# Altium footprint library LARS_409_CONNECTORS.PCBLIB: 109 footprints (part 5 of 7)
Each footprint in its own frame and in the unit in brackets; x right, y up, seen from the top. Pads: shape width x height; smd on the part's side, far side on the other; paste and mask are expansions set on the pad; w line width, h text height; cw(c..) or ccw(c..) is an arc to the next point about the centre after c.
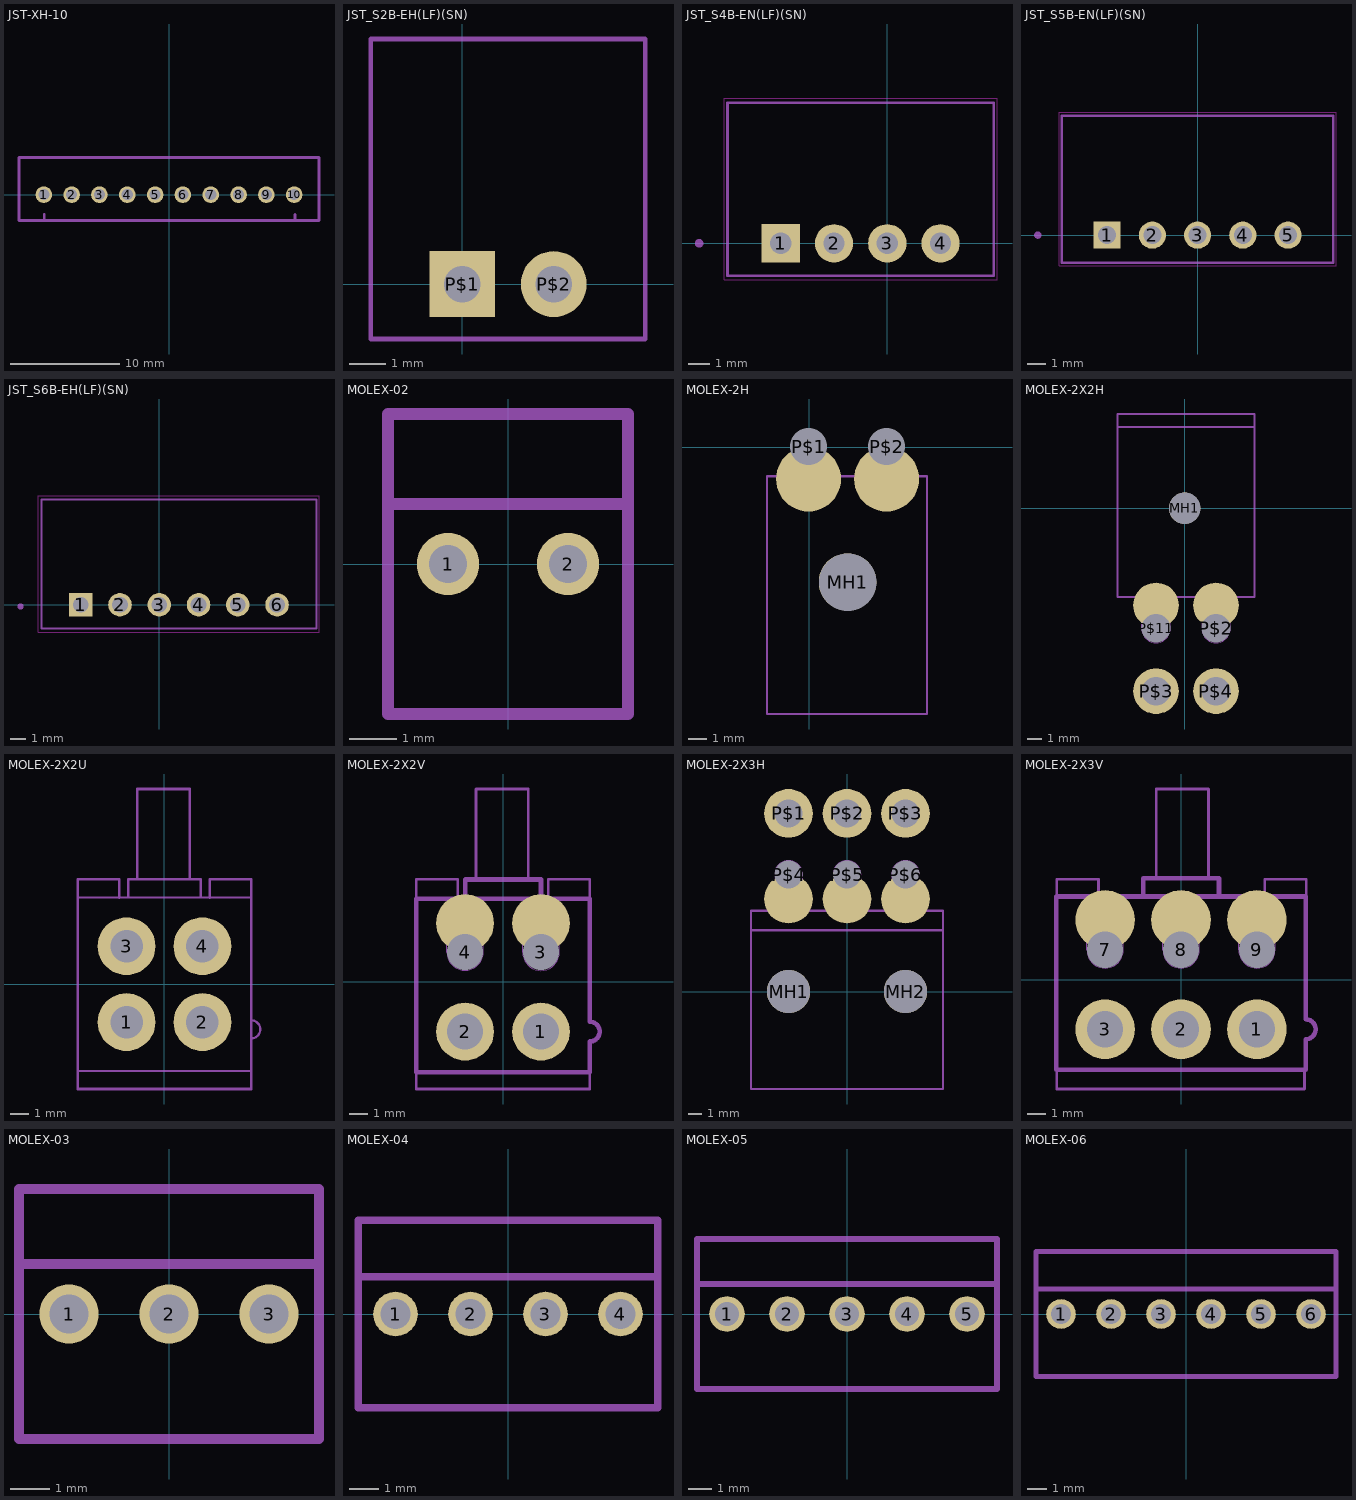
[diagram p4: the footprints below, top view; thin cyan lines are the x and y axes]

## JST-XH-10 [mil]
pads (10):
  round 60 hole 40: 1(-450,0) 2(-350,0) 3(-250,0) 4(-150,0) 5(-50,0) 6(50,0) 7(150,0) 8(250,0) 9(350,0) 10(450,0)
tDocu:
  text "1" at -510.53,-62.5 h62
tPlace:
  lines w10: -448.82,-90.55 -448.82,-70.87 ; 452.76,-90.55 452.76,-70.87 ; -539.37,-92.82 539.37,-92.82 539.37,133.56 -539.37,133.56 -539.37,-92.82

## JST_S2B-EH(LF)(SN) [mm]
pads (2):
  rect 1.8x1.8 / inner round 1.663 / far side rect 1.8x1.8 hole 1: P$1(0,0)
  round 1.8 hole 1: P$2(2.5,0)
tPlace:
  lines w0.127: -2.5,-1.5 -2.5,6.7 5,6.7 5,-1.5 -2.5,-1.5

## JST_S4B-EN(LF)(SN) [mm]
pads (4):
  rect 1.8x1.8 / inner round 1.663 / far side rect 1.8x1.8 hole 1: 1(-5,0)
  round 1.8 hole 1: 2(-2.5,0) 3(0,0) 4(2.5,0)
Top keep-out:
  lines w0.05: -7.65,-1.7 -7.65,6.8 5.15,6.8 5.15,-1.7 -7.65,-1.7
tDocu:
  circle w0.2: c-8.83,0 r0.1
  lines w0.127: -7.5,-1.52 5,-1.52 5,6.6 -7.5,6.6 -7.5,-1.52
tPlace:
  circle w0.2: c-8.83,0 r0.1
  lines w0.127: -7.5,-1.52 5,-1.52 5,6.6 -7.5,6.6 -7.5,-1.52

## JST_S5B-EN(LF)(SN) [mm]
pads (5):
  rect 1.5x1.5 / inner round 1.386 / far side rect 1.5x1.5 hole 1: 1(-5,0)
  round 1.5 hole 1: 2(-2.5,0) 3(0,0) 4(2.5,0) 5(5,0)
Top keep-out:
  lines w0.05: -7.65,-1.7 -7.65,6.8 7.65,6.8 7.65,-1.7 -7.65,-1.7
tDocu:
  circle w0.2: c-8.83,0 r0.1
  lines w0.127: -7.5,-1.52 7.5,-1.52 7.5,6.6 -7.5,6.6 -7.5,-1.52
tPlace:
  circle w0.2: c-8.83,0 r0.1
  lines w0.127: -7.5,-1.52 7.5,-1.52 7.5,6.6 -7.5,6.6 -7.5,-1.52

## JST_S6B-EH(LF)(SN) [mm]
pads (6):
  rect 1.5x1.5 / inner round 1.386 / far side rect 1.5x1.5 hole 1: 1(-5,0)
  round 1.5 hole 1: 2(-2.5,0) 3(0,0) 4(2.5,0) 5(5,0) 6(7.5,0)
Top keep-out:
  lines w0.05: -7.7,-1.75 -7.7,6.95 10.17,6.95 10.17,-1.75 -7.7,-1.75
tDocu:
  circle w0.2: c-8.83,-0.1 r0.1
  lines w0.127: -7.5,-1.5 10,-1.5 10,6.7 -7.5,6.7 -7.5,-1.5
tPlace:
  circle w0.2: c-8.83,-0.1 r0.1
  lines w0.127: -7.5,-1.5 10,-1.5 10,6.7 -7.5,6.7 -7.5,-1.5

## MOLEX-02 [mil]
pads (2):
  round 52 hole 32: 1(-50,0) 2(50,0)
tPlace:
  lines w10: -100,50 100,50 ; -100,50 -100,125 100,125 100,50 ; -100,50 -100,-125 100,-125 100,50

## MOLEX-2H [mm]
pads (3):
  round 3.1 hole 3.1 unplated: MH1(2.06,-7.25)
  round 3.5 hole 2 copper offset 0,-1.75: P$1(-0.04,0.05) P$2(4.16,0.05)
tPlace:
  lines w0.127: 6.34,-2.34 6.34,-14.35 -2.28,-14.35 -2.28,-1.55 6.34,-1.55 6.34,-2.32

## MOLEX-2X2H [mm]
pads (5):
  round 2.2 hole 2.2 unplated: MH1(0,0)
  round 3.2 hole 2 copper offset 0,1.6: P$2(2.2,-8.4) P$11(-2,-8.4)
  round 3.2 hole 2: P$3(-2,-12.8) P$4(2.2,-12.8)
Milling:
  lines w0: -3.01,-8.4 ccw(c-2,-8.4) -2,-9.41 ccw(c-2,-8.4) -0.99,-8.4 -0.99,-7.3 ccw(c-2,-7.3) -2,-6.29 ccw(c-2,-7.3) -3.01,-7.3 -3.01,-8.4 ; 1.19,-8.4 ccw(c2.2,-8.4) 2.2,-9.41 ccw(c2.2,-8.4) 3.21,-8.4 3.21,-7.3 ccw(c2.2,-7.3) 2.2,-6.29 ccw(c2.2,-7.3) 1.19,-7.3 1.19,-8.4
tPlace:
  lines w0.127: -4.7,5.7 4.9,5.7 ; -4.7,5.7 -4.7,6.6 4.9,6.6 4.9,5.7 ; -4.7,5.7 -4.7,-6.2 4.9,-6.2 4.9,5.7

## MOLEX-2X2U [mil]
pads (4):
  round 125.98 hole 70.87: 1(-82.68,-82.68) 2(82.68,-82.68) 3(-82.68,82.68) 4(82.68,82.68)
tPlace:
  lines w5: -78.74,188.98 -78.74,228.35 -59.06,228.35 55.12,228.35 78.74,228.35 78.74,188.98 ; 188.98,-118.11 ccw(c188.98,-98.42) 188.98,-78.74 ; -188.98,-188.98 188.98,-188.98 188.98,188.98 -98.43,188.98 -188.98,188.98 -188.98,-188.98
  lines w6: -188.98,-188.98 -188.98,-228.35 188.98,-228.35 188.98,-188.98 ; -188.98,188.98 -188.98,228.35 -98.43,228.35 -98.43,188.98 ; -59.06,228.35 -59.06,425.2 55.12,425.2 55.12,228.35 ; 98.43,188.98 98.43,228.35 188.98,228.35 188.98,188.98

## MOLEX-2X2V [mm]
pads (4):
  round 3.2 hole 2: 1(2.1,-2.75) 2(-2.1,-2.75)
  round 3.2 hole 2 copper offset 0,1.6: 3(2.1,1.65) 4(-2.1,1.65)
Milling:
  lines w0: -3.11,1.65 ccw(c-2.1,1.65) -2.1,0.64 ccw(c-2.1,1.65) -1.09,1.65 -1.09,2.75 ccw(c-2.1,2.75) -2.1,3.76 ccw(c-2.1,2.75) -3.11,2.75 -3.11,1.65 ; 1.09,1.64 ccw(c2.1,1.64) 2.1,0.63 ccw(c2.1,1.64) 3.11,1.64 3.11,2.74 ccw(c2.1,2.74) 2.1,3.75 ccw(c2.1,2.74) 1.09,2.74 1.09,1.64
tDocu:
  lines w0.254: -2.1,4.6 -2.1,5.665 2.1,5.665 2.1,4.6
tPlace:
  lines w0.152: -4.8,-4.927 -4.8,-5.927 4.8,-5.927 4.8,-4.927 ; -4.8,4.673 -4.8,5.673 -2.5,5.673 -2.5,4.673 ; -1.5,5.673 -1.5,10.673 1.4,10.673 1.4,5.673 ; 2.5,4.673 2.5,5.673 4.8,5.673 4.8,4.673
  lines w0.254: -4.8,-5 -4.8,4.6 4.8,4.6 4.8,-2.2 cw(c4.8,-2.75) 4.8,-3.3 4.8,-5 -4.8,-5

## MOLEX-2X3H [mm]
pads (8):
  round 3.1 hole 3.1 unplated: MH1(-4.2,0) MH2(4.2,0)
  round 3.5 hole 2: P$1(-4.2,12.8) P$2(0,12.8) P$3(4.2,12.8)
  round 3.5 hole 2 copper offset 0,-1.75: P$4(-4.2,8.4) P$5(0,8.4) P$6(4.2,8.4)
Milling:
  lines w0: -5.213,7.3 ccw(c-4.2,7.3) -4.2,6.288 ccw(c-4.2,7.3) -3.187,7.3 -3.187,8.4 ccw(c-4.2,8.4) -4.2,9.412 ccw(c-4.2,8.4) -5.213,8.4 -5.213,7.3 ; -1.012,7.3 ccw(c0,7.3) 0,6.288 ccw(c0,7.3) 1.012,7.3 1.012,8.4 ccw(c0,8.4) 0,9.412 ccw(c0,8.4) -1.012,8.4 -1.012,7.3 ; 3.187,7.3 ccw(c4.2,7.3) 4.2,6.288 ccw(c4.2,7.3) 5.213,7.3 5.213,8.4 ccw(c4.2,8.4) 4.2,9.412 ccw(c4.2,8.4) 3.187,8.4 3.187,7.3
tDocu:
  lines w0.152: -6.9,4.307 -6.9,5.8 6.9,5.8 6.9,4.307
tPlace:
  lines w0.152: -6.9,-7 -6.9,4.4 6.9,4.4 6.9,-7 -6.9,-7

## MOLEX-2X3V [mm]
pads (6):
  round 3.3 hole 2: 1(4.2,-2.75) 2(0,-2.75) 3(-4.2,-2.75)
  round 3.3 hole 2 copper offset 0,1.65: 7(-4.2,1.65) 8(0,1.65) 9(4.2,1.65)
Milling:
  lines w0: -5.21,1.65 ccw(c-4.2,1.65) -4.2,0.64 ccw(c-4.2,1.65) -3.19,1.65 -3.19,2.75 ccw(c-4.2,2.75) -4.2,3.76 ccw(c-4.2,2.75) -5.21,2.75 -5.21,1.65 ; -1.01,1.65 ccw(c0,1.65) 0,0.64 ccw(c0,1.65) 1.01,1.65 1.01,2.75 ccw(c0,2.75) 0,3.76 ccw(c0,2.75) -1.01,2.75 -1.01,1.65 ; 3.19,1.65 ccw(c4.2,1.65) 4.2,0.64 ccw(c4.2,1.65) 5.21,1.65 5.21,2.75 ccw(c4.2,2.75) 4.2,3.76 ccw(c4.2,2.75) 3.19,2.75 3.19,1.65
tDocu:
  lines w0.254: -2.1,4.6 -2.1,5.6 2.1,5.6 2.1,4.6
tPlace:
  lines w0.152: -6.873,-5.054 -6.873,-6.054 6.827,-6.054 6.827,-5.054 ; -6.873,4.546 -6.873,5.546 -4.573,5.546 -4.573,4.546 ; -1.373,5.546 -1.373,10.546 1.527,10.546 1.527,5.546 ; 4.627,4.546 4.627,5.546 6.927,5.546 6.927,4.546
  lines w0.254: -6.9,-5 -6.9,4.6 6.9,4.6 6.9,-2.2 cw(c6.9,-2.75) 6.9,-3.3 6.9,-5 -6.9,-5

## MOLEX-03 [mm]
pads (3):
  round 1.508 hole 1: 1(-2.54,0) 2(0,0) 3(2.54,0)
tPlace:
  lines w0.254: -3.81,1.27 3.81,1.27 ; -3.81,1.27 -3.81,3.175 3.81,3.175 3.81,1.27 ; -3.81,1.27 -3.81,-3.175 3.81,-3.175 3.81,1.27

## MOLEX-04 [mm]
pads (4):
  round 1.508 hole 1: 1(-3.81,0) 2(-1.27,0) 3(1.27,0) 4(3.81,0)
tPlace:
  lines w0.254: -5.08,1.27 5.08,1.27 ; -5.08,1.27 -5.08,3.175 5.08,3.175 5.08,1.27 ; -5.08,1.27 -5.08,-3.175 5.08,-3.175 5.08,1.27

## MOLEX-05 [mm]
pads (5):
  round 1.508 hole 1: 1(-5.08,0) 2(-2.54,0) 3(0,0) 4(2.54,0) 5(5.08,0)
tPlace:
  lines w0.254: -6.35,1.27 6.35,1.27 ; -6.35,1.27 -6.35,3.175 6.35,3.175 6.35,1.27 ; -6.35,1.27 -6.35,-3.175 6.35,-3.175 6.35,1.27

## MOLEX-06 [mm]
pads (6):
  round 1.508 hole 1: 1(-6.35,0) 2(-3.81,0) 3(-1.27,0) 4(1.27,0) 5(3.81,0) 6(6.35,0)
tPlace:
  lines w0.254: -7.62,1.27 7.62,1.27 ; -7.62,1.27 -7.62,3.175 7.62,3.175 7.62,1.27 ; -7.62,1.27 -7.62,-3.175 7.62,-3.175 7.62,1.27